# Altium schematic symbol library U_TCA9406DCUR.SchLib: 1 symbol
Pins are listed as number, name and electrical type; pins without a type are passive.

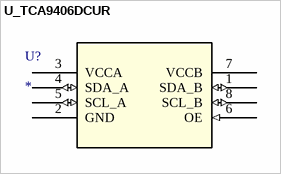
[diagram p0: symbol U_TCA9406DCUR]

## U_TCA9406DCUR
designator U?
No Description Available; Mfr_Name: Texas Instruments; RefDes: RefDes; Type: Type
footprint DCU8
pins: 1 SDA_B (io), 2 GND (power), 3 VCCA (power), 4 SDA_A (io), 5 SCL_A (io), 6 OE (in), 7 VCCB (power), 8 SCL_B (io)